# EAGLE library part SIMHOLDER (library bodger)
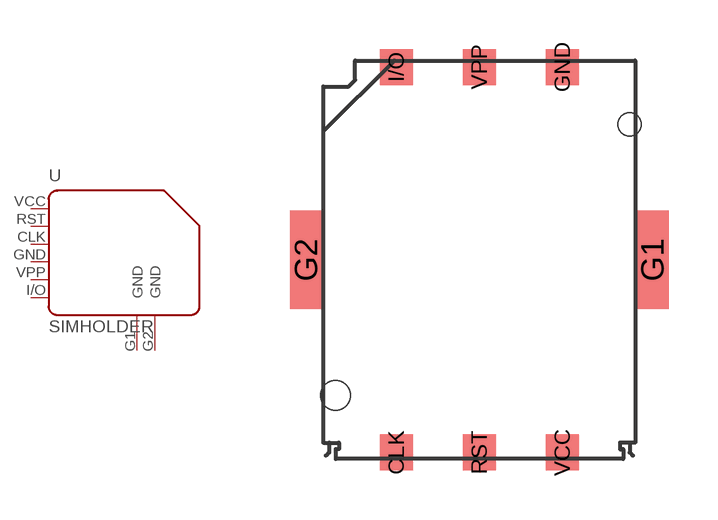
[diagram p43: symbol with the pads of SIM8050; footprint SIM8050]

Designator prefix -

## SIMHOLDERSIM8050  [SIM8050]
CLK  CLK  pas
G1  GND  pwr
G2  GND  pwr
GND  GND  pas
I/O  I/O  pas
RST  RST  pas
VCC  VCC  pas
VPP  VPP  pas

## Footprint SIM8050 (pad centres in mm)
smd 1 x 1.1: CLK -2.54,-5.9; GND 2.54,5.9; I/O -2.54,5.9; RST 0,-5.9; VCC 2.54,-5.9; VPP 0,5.9
smd 1 x 3: G1 5.3,0; G2 -5.3,0
hole 0.9 at -4.4,-4.15
hole 0.7 at 4.6,4.15